# Altium footprint library PcbLib1.PcbLib: 10 footprints
Each footprint in its own frame and in the unit in brackets; x right, y up, seen from the top. Pads: shape width x height; smd on the part's side, far side on the other; paste and mask are expansions set on the pad; w line width, h text height; cw(c..) or ccw(c..) is an arc to the next point about the centre after c.
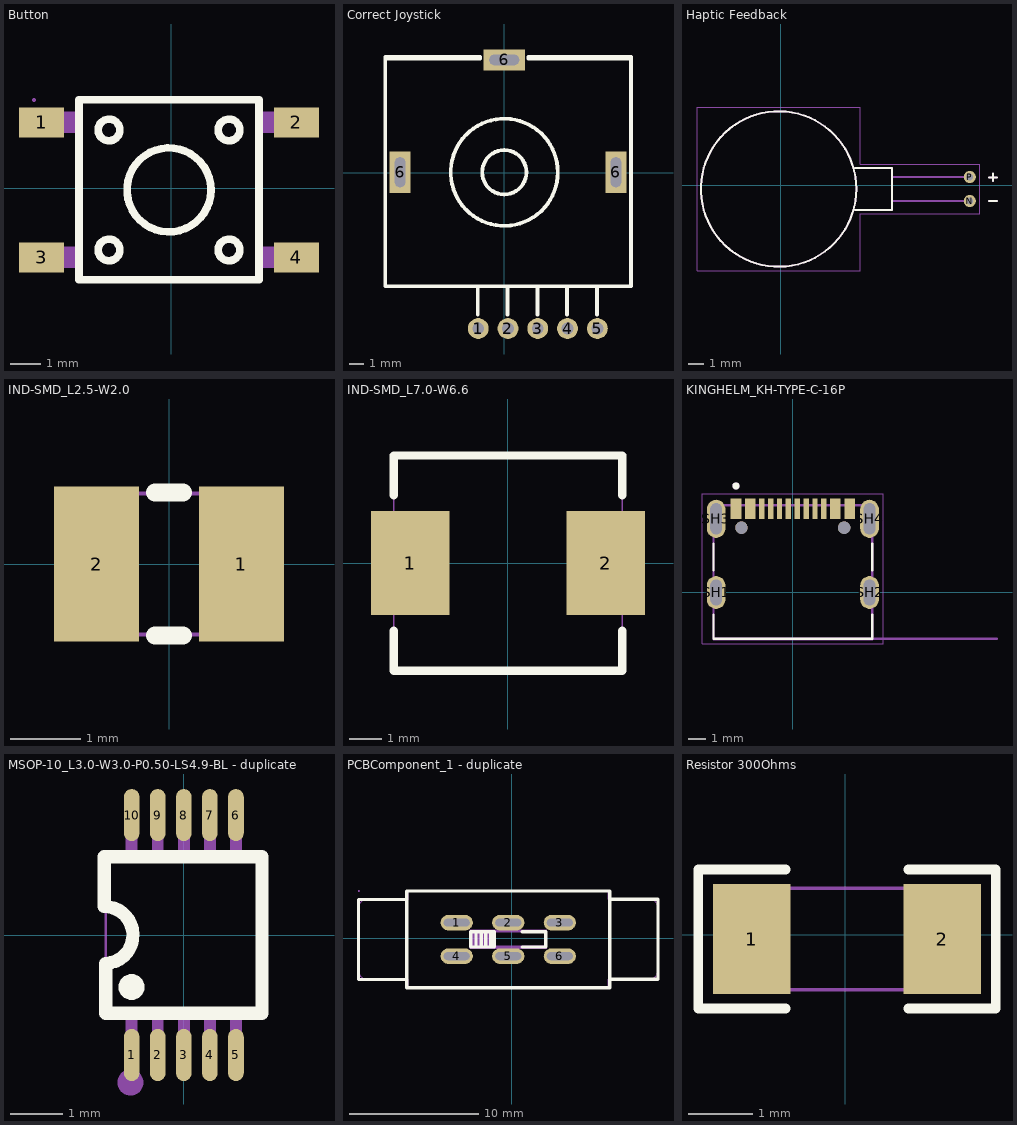
[diagram p0: the footprints below, top view; thin cyan lines are the x and y axes]

## Button [mm]
pads (4):
  rect 1.5x1 smd: 1(-4.33,2.202) 2(4.17,2.202) 3(-4.33,-2.298) 4(4.17,-2.298)
Top Overlay:
  circle w0.254: c-0.08,-0.048 r1.4
  circle w0.254: c1.92,1.952 r0.361
  circle w0.254: c-2.08,1.952 r0.361
  circle w0.254: c-2.08,-2.048 r0.361
  circle w0.254: c1.92,-2.048 r0.361
  lines w0.254: -3.08,-3.048 2.92,-3.048 2.92,2.952 -3.08,2.952 -3.08,-3.048
Mechanical 15:
  region: -4.52,2.952 -4.52,2.927 -4.555,2.892 -4.605,2.892 -4.64,2.927 -4.64,2.952 -4.64,2.977 -4.605,3.012 -4.555,3.012 -4.52,2.977
  region: -3.79,1.852 -3.79,2.552 -3.07,2.552 -3.07,1.852
  region: -4.58,1.852 -4.58,2.552 -3.78,2.552 -3.78,1.852
  region: -3.79,-2.648 -3.79,-1.948 -3.07,-1.948 -3.07,-2.648
  region: -4.58,-2.648 -4.58,-1.948 -3.78,-1.948 -3.78,-2.648
  region: 2.91,-2.648 2.91,-1.948 3.63,-1.948 3.63,-2.648
  region: 3.62,-2.648 3.62,-1.948 4.42,-1.948 4.42,-2.648
  region: 2.91,1.852 2.91,2.552 3.63,2.552 3.63,1.852
  region: 3.62,1.852 3.62,2.552 4.42,2.552 4.42,1.852
  lines w0.051: -3.08,-3.048 2.92,-3.048 2.92,2.952 -3.08,2.952 -3.08,-3.048

## Correct Joystick [mm]
pads (8):
  round 1.4 hole 0.8: 1(-1.751,-10.476) 2(0.249,-10.476) 3(2.249,-10.476) 4(4.249,-10.476) 5(6.249,-10.476)
  rect 1.4x2.8 hole 0.7 slot 2 at 90 deg: 6(-7.001,0.024) 6(7.499,0.024)
  rect 2.8x1.4 hole 0.7 slot 2 at 0 deg: 6(-0.001,7.574)
Top Overlay:
  circle w0.254: c-0.001,0.024 r3.597
  circle w0.254: c-0.001,0.024 r1.486
  lines w0.254: -8.001,7.644 -1.632,7.644 ; -1.779,-9.545 -1.779,-7.626 ; -1.632,7.774 -8.001,7.774 -8.001,-7.626 8.508,-7.626 ; 0.221,-9.545 0.221,-7.626 ; 1.63,7.644 8.499,7.644 ; 1.63,7.774 8.508,7.774 8.508,-7.596 ; 2.221,-9.545 2.221,-7.626 ; 4.221,-9.545 4.221,-7.626 ; 6.221,-9.545 6.221,-7.626

## Haptic Feedback [mm]
pads (2):
  round 0.78 hole 0.43: N(12.173,-1.026) P(12.173,0.518)
Top Overlay:
  circle w0.127: c-0.127,-0.254 r5
  lines w0.127: 4.773,-1.604 7.173,-1.604 7.173,1.096 4.773,1.096 ; 13.423,-1.028 13.923,-1.028 ; 13.423,0.496 13.923,0.496 ; 13.673,0.246 13.673,0.746
Mechanical 13:
  circle w0.127: c-0.127,-0.254 r5
  lines w0.127: 4.773,-1.604 7.173,-1.604 7.173,-1.026 ; 4.773,1.096 7.173,1.096 7.173,0.518 ; 12.173,-1.026 7.173,-1.026 ; 12.173,0.518 7.173,0.518 ; 13.423,-1.028 13.923,-1.028 ; 13.423,0.496 13.923,0.496 ; 13.673,0.246 13.673,0.746 ; 7.173,-1.026 7.173,0.518
Mechanical 15:
  lines w0.05: -5.377,-5.504 -5.377,4.996 5.123,4.996 5.123,1.346 12.813,1.346 12.813,-1.854 5.123,-1.854 5.123,-5.504 -5.377,-5.504
3D body "HD-EMC1003-2-LW15-R.STEP": height 2.7, standoff 0, extent -5.127,-5.254 21.217,4.746

## IND-SMD_L2.5-W2.0 [mm]
pads (2):
  rect 1.2x2.2 smd: 1(1.028,0) 2(-1.028,0)
Top Overlay:
  lines w0.254: -0.197,-1.016 0.197,-1.016 ; -0.197,1.016 0.197,1.016
Mechanical 15:
  region: -1.16,-0.97 -1.16,-0.995 -1.195,-1.03 -1.245,-1.03 -1.28,-0.995 -1.28,-0.97 -1.28,-0.945 -1.245,-0.91 -1.195,-0.91 -1.16,-0.945
  region: 0.45,1 1.25,1 1.25,-1 0.45,-1
  region: -1.25,1 -0.45,1 -0.45,-1 -1.25,-1
  lines w0.051: -1.25,-1 1.25,-1 1.25,1 -1.25,1 -1.25,-1

## IND-SMD_L7.0-W6.6 [mm]
pads (2):
  rect 2.4x3.2 smd: 1(-3,0) 2(3,0)
Top Overlay:
  lines w0.254: -3.5,-2.081 -3.5,-3.3 -3.49,-3.3 3.5,-3.3 3.5,-2.081 ; -3.5,2.081 -3.5,3.3 3.48,3.3 3.5,3.28 ; 3.5,2.081 3.5,3.3
Mechanical 15:
  region: -3.44,-3.3 -3.44,-3.325 -3.475,-3.36 -3.525,-3.36 -3.56,-3.325 -3.56,-3.3 -3.56,-3.275 -3.525,-3.24 -3.475,-3.24 -3.44,-3.275
  region: 1.9,1.5 3.5,1.5 3.5,-1.5 1.9,-1.5
  region: -1.9,-1.5 -3.5,-1.5 -3.5,1.5 -1.9,1.5
  lines w0.051: -3.5,-3.3 -3.5,3.3 3.5,3.3 3.5,-3.3 -3.5,-3.3

## KINGHELM_KH-TYPE-C-16P [mm]
height 3.41
pads (18):
  rect 0.6x1.15 smd: A1_B12(-3.2,4.725) A4_B9(-2.4,4.725) A9_B4(2.4,4.725) A12_B1(3.2,4.725)
  rect 0.3x1.15 smd: A5(-1.25,4.725) A6(-0.25,4.725) A7(0.25,4.725) A8(1.25,4.725) B5(1.75,4.725) B6(0.75,4.725) B7(-0.75,4.725) B8(-1.75,4.725)
  oval 1.05x1.85 hole 0.65 slot 1.45 at 90 deg: SH1(-4.32,0) SH2(4.32,0)
  oval 1.05x2.15 hole 0.65 slot 1.75 at 90 deg: SH3(-4.32,4.15) SH4(4.32,4.15)
  round 0.7 hole 0.7 unplated: ""(-2.89,3.65) ""(2.89,3.65)
Top Overlay:
  circle w0.2: c-3.2,6 r0.1
  lines w0.127: -4.47,-1.25 -4.47,-2.6 4.47,-2.6 4.47,-1.25 ; -4.47,1.25 -4.47,2.75 ; 4.47,1.25 4.47,2.75
Mechanical 13:
  circle w0.2: c-3.2,6 r0.1
  lines w0.127: 11.5,-2.6 4.47,-2.6 ; -4.47,-2.6 -4.47,-2.64 4.47,-2.64 4.47,-2.6 ; -4.47,-2.6 -4.47,4.91 4.47,4.91 4.47,-2.6 ; -4.47,-2.6 4.47,-2.6
  text "PCB EDGE" at 5.5,-2.25 h0.81
Mechanical 15:
  lines w0.05: -5.095,-2.89 -5.095,5.55 5.095,5.55 5.095,-2.89 -5.095,-2.89
3D body "step_temp.STEP": height 3.41, standoff -1.1, extent -4.47,-2.667 4.47,5.143

## MSOP-10_L3.0-W3.0-P0.50-LS4.9-BL - duplicate [mm]
pads (10):
  oval 0.3x1 smd: 1(-1,-2.3) 2(-0.5,-2.3) 3(0,-2.3) 4(0.5,-2.3) 5(1,-2.3) 6(1,2.3) 7(0.5,2.3) 8(0,2.3) 9(-0.5,2.3) 10(-1,2.3)
Top Overlay:
  region: -1.243,-1 -1.243,-0.952 -1.206,-0.862 -1.138,-0.794 -1.048,-0.757 -0.952,-0.757 -0.862,-0.794 -0.794,-0.862 -0.757,-0.952 -0.757,-1 -0.757,-1.048 -0.794,-1.138 -0.862,-1.206 -0.952,-1.243 -1.048,-1.243 -1.138,-1.206 -1.206,-1.138 -1.243,-1.048
  lines w0.254: 1.3,1.5 1.5,1.5 ; 1.5,1.5 1.5,-1.5 1.3,-1.5 -1.3,-1.5 -1.499,-1.5 -1.499,-0.546 ccw(c-1.522,0) -1.524,0.546 -1.524,1.5 -1.3,1.5 1.5,1.5
Mechanical 6:
  circle w0.25: c-1.024,-2.828 r0.125
Mechanical 15:
  region: -1.11,-2.45 -1.11,-1.92 -0.89,-1.92 -0.89,-2.45
  region: -1.11,-1.93 -1.11,-1.49 -0.89,-1.49 -0.89,-1.93
  region: -0.61,-2.45 -0.61,-1.92 -0.39,-1.92 -0.39,-2.45
  region: -0.61,-1.93 -0.61,-1.49 -0.39,-1.49 -0.39,-1.93
  region: -0.11,-2.45 -0.11,-1.92 0.11,-1.92 0.11,-2.45
  region: -0.11,-1.93 -0.11,-1.49 0.11,-1.49 0.11,-1.93
  region: 0.39,-2.45 0.39,-1.92 0.61,-1.92 0.61,-2.45
  region: 0.39,-1.93 0.39,-1.49 0.61,-1.49 0.61,-1.93
  region: 0.89,-2.45 0.89,-1.92 1.11,-1.92 1.11,-2.45
  region: 0.89,-1.93 0.89,-1.49 1.11,-1.49 1.11,-1.93
  region: 0.89,1.92 0.89,2.45 1.11,2.45 1.11,1.92
  region: 0.89,1.49 0.89,1.93 1.11,1.93 1.11,1.49
  region: 0.39,1.92 0.39,2.45 0.61,2.45 0.61,1.92
  region: 0.39,1.49 0.39,1.93 0.61,1.93 0.61,1.49
  region: -0.11,1.92 -0.11,2.45 0.11,2.45 0.11,1.92
  region: -0.11,1.49 -0.11,1.93 0.11,1.93 0.11,1.49
  region: -0.61,1.92 -0.61,2.45 -0.39,2.45 -0.39,1.92
  region: -0.61,1.49 -0.61,1.93 -0.39,1.93 -0.39,1.49
  region: -1.11,1.92 -1.11,2.45 -0.89,2.45 -0.89,1.92
  region: -1.11,1.49 -1.11,1.93 -0.89,1.93 -0.89,1.49
  region: -0.94,-1 -0.94,-1.025 -0.975,-1.06 -1.025,-1.06 -1.06,-1.025 -1.06,-1 -1.06,-0.975 -1.025,-0.94 -0.975,-0.94 -0.94,-0.975
  lines w0.051: -1.5,-1.5 -1.5,1.5 1.5,1.5 1.5,-1.5 -1.5,-1.5

## PCBComponent_1 [mm]

## PCBComponent_1 - duplicate [mm]
pads (6):
  oval 2.5x1.2 hole 0.6 slot 2 at 0 deg paste-2539.97 mask+0.05: 1(-4.254,1.203) 2(-0.254,1.203) 3(3.746,1.203) 4(-4.254,-1.397) 5(-0.254,-1.397) 6(3.746,-1.397)
Top Overlay:
  lines w0.254: -8.128,-3.218 -11.874,-3.218 -11.874,3.003 -8.128,3.003 ; -3.16,0.473 -3.16,-0.696 -1.348,-0.696 ; -3.158,0.503 -2.094,0.503 -1.35,0.503 -1.35,-0.696 ; -2.751,-0.696 -2.751,0.503 ; -2.357,-0.696 -2.357,0.503 ; -2.002,-0.696 -2.002,0.503 ; -1.621,-0.696 -1.621,0.503 ; 0.84,-0.696 2.65,-0.696 2.65,0.503 0.842,0.503 ; 7.62,-3.197 11.366,-3.197 11.366,3.024 7.62,3.024 ; -8.128,-3.847 -8.128,3.653 7.62,3.653 7.62,-3.847 -8.128,-3.847
Mechanical 6:
  region: -3.254,0.453 -1.224,0.453 -1.224,-0.607 -3.244,-0.607 -3.234,-0.597
  region: -3.254,0.643 2.736,0.643 2.736,-0.817 -3.234,-0.817 -3.244,-0.827 -3.244,-0.607 2.536,-0.607 2.536,0.453 2.526,0.463 -3.254,0.463
Mechanical 15:
  region: 2.946,-1.197 4.546,-1.197 4.546,-1.597 2.946,-1.597
  region: -1.054,-1.197 0.546,-1.197 0.546,-1.597 -1.054,-1.597
  region: -5.054,-1.197 -3.454,-1.197 -3.454,-1.597 -5.054,-1.597
  region: 2.946,1.403 4.546,1.403 4.546,1.003 2.946,1.003
  region: -1.054,1.403 0.546,1.403 0.546,1.003 -1.054,1.003
  region: -5.054,1.403 -3.454,1.403 -3.454,1.003 -5.054,1.003
  region: -11.794,3.653 -11.794,3.628 -11.829,3.593 -11.879,3.593 -11.914,3.628 -11.914,3.653 -11.914,3.678 -11.879,3.713 -11.829,3.713 -11.794,3.678
  lines w0.051: -11.854,-2.577 ccw(c-11.234,-2.577) -11.234,-3.197 -8.004,-3.197 -8.004,-3.847 7.496,-3.847 7.496,-3.197 10.716,-3.197 ccw(c10.716,-2.567) 11.346,-2.567 11.346,2.403 ccw(c10.746,2.403) 10.746,3.003 7.496,3.003 7.496,3.653 -8.004,3.653 -8.014,3.003 -11.234,3.003 ccw(c-11.234,2.383) -11.854,2.383 -11.854,-2.577

## Resistor 300Ohms [mm]
pads (2):
  rect 1.208x1.701 smd paste-100 mask+0.051: 1(-1.454,-0.064) 2(1.504,-0.064)
Top Overlay:
  lines w0.152: -0.926,-1.143 -2.286,-1.143 -2.286,1.015 -0.926,1.015 ; 0.976,-1.143 2.336,-1.143 2.336,1.015 0.976,1.015
Top Paste:
  region: 0.9,-0.814 0.9,-0.453 1,-0.353 1.211,-0.353 1.311,-0.253 1.311,0.125 1.211,0.225 1,0.225 0.9,0.325 0.9,0.687 1,0.787 2.008,0.787 2.108,0.687 2.108,-0.814 2.008,-0.914 1,-0.914
  region: -0.85,-0.814 -0.85,-0.453 -0.95,-0.353 -1.16,-0.353 -1.26,-0.253 -1.26,0.125 -1.16,0.225 -0.95,0.225 -0.85,0.325 -0.85,0.687 -0.95,0.787 -1.957,0.787 -2.057,0.687 -2.057,-0.814 -1.957,-0.914 -0.95,-0.914
Mechanical 15:
  region: -1.465,-0.851 -1.465,-0.876 -1.5,-0.911 -1.55,-0.911 -1.585,-0.876 -1.585,-0.851 -1.585,-0.826 -1.55,-0.791 -1.5,-0.791 -1.465,-0.826
  region: -1.525,-0.851 -1.525,0.724 -1.075,0.724 -1.075,-0.851
  region: 1.575,-0.851 1.575,0.724 1.125,0.724 1.125,-0.851
  lines w0.051: -1.525,-0.851 -1.525,0.724 1.575,0.724 1.575,-0.851 -1.525,-0.851